# Altium schematic symbol library ZG-Mxx.SchLib: 1 symbol
Pins are listed as number, name and electrical type; pins without a type are passive.

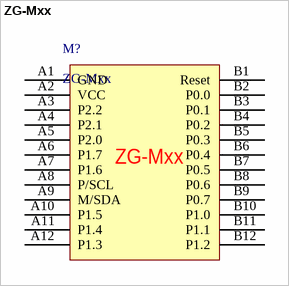
[diagram p0: symbol ZG-Mxx]

## ZG-Mxx
designator M?
footprint ZG-M0
footprint ZG-M0
footprint ZG-M1/1E
pins: A1 GND, A2 VCC, A3 P2.2, A4 P2.1, A5 P2.0, A6 P1.7, A7 P1.6, A8 P/SCL, A9 M/SDA, A10 P1.5, A11 P1.4, A12 P1.3, B1 Reset, B2 P0.0, B3 P0.1, B4 P0.2, B5 P0.3, B6 P0.4, B7 P0.5, B8 P0.6, B9 P0.7, B10 P1.0, B11 P1.1, B12 P1.2